# Altium footprint library PcbLib_Kur.PcbLib: 19 footprints (part 1 of 2)
Each footprint in its own frame and in the unit in brackets; x right, y up, seen from the top. Pads: shape width x height; smd on the part's side, far side on the other; paste and mask are expansions set on the pad; w line width, h text height; cw(c..) or ccw(c..) is an arc to the next point about the centre after c.
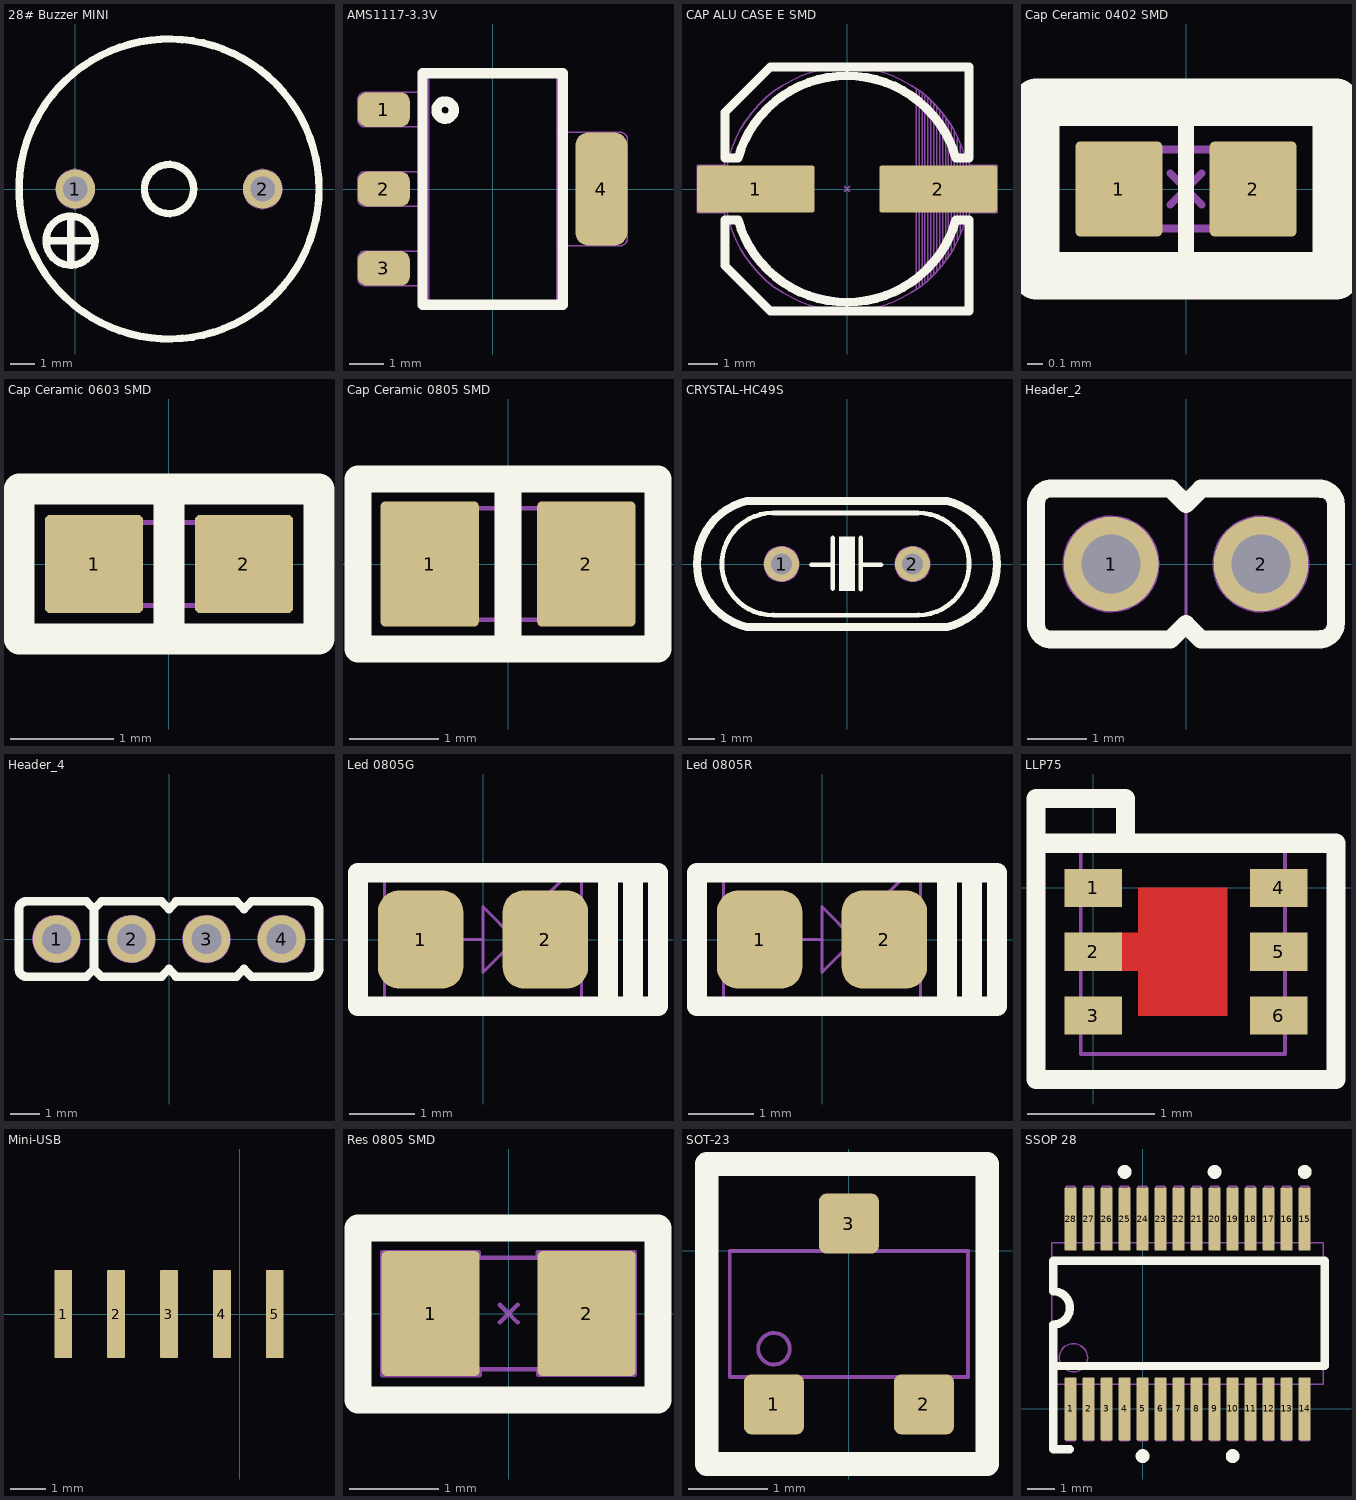
[diagram p0: the footprints below, top view; thin cyan lines are the x and y axes]

## 28# Buzzer MINI [mm] "PB-12N23P-05Q"
height 9.7
pads (2):
  round 1.6 hole 1 mask+0.1: 1(0,0) 2(7.62,0)
Top Overlay:
  circle w0.3: c-0.19,-2.1 r1
  circle w0.3: c3.81,0 r6.1
  circle w0.3: c3.81,0 r1
  lines w0.3: -1.19,-2.1 0.81,-2.1 ; -0.19,-3.1 -0.19,-1.1
Mechanical 2:
  circle w0.05: c0,0 r0.8
  circle w0.05: c3.81,0 r1
  circle w0.05: c-0.19,-2.1 r1
  circle w0.05: c7.62,0 r0.8
  circle w0.05: c3.81,0 r6.1
  lines w0.05: -1.19,-2.1 0.81,-2.1 ; -0.19,-3.1 -0.19,-1.1
  text "1" at -0.2,-0.5 h1.2
  text "2" at 7.32,-0.6 h1.2
3D body "User Library-Buzzer14mm.step": height 7.35, standoff -3.1, extent -3,-7 11,7

## AMS1117-3.3V [mm] "SOT223, 4-Leads, Body 6.7x7.3mm (max), Pitch 2.30mm, IPC Medium Density"
height 1.8
pads (4):
  rrect50% 1.5x1 smd: 1(-3.15,2.3) 2(-3.15,0) 3(-3.15,-2.3)
  rrect50% 1.5x3.28 smd: 4(3.15,0)
Top Overlay:
  circle w0.3: c-1.375,2.286 r0.25
  lines w0.3: -2.032,-3.355 2.032,-3.355 2.032,3.355 -2.032,3.355 -2.032,-3.355
Mechanical 2:
  lines w0.05: -1.89,1.8 -3.7,1.8 cw(c-3.7,2) -3.9,2 -3.9,2.6 cw(c-3.7,2.6) -3.7,2.8 -1.89,2.8 ; -1.855,-2.8 -3.7,-2.8 cw(c-3.7,-2.6) -3.9,-2.6 -3.9,-2 cw(c-3.7,-2) -3.7,-1.8 -1.855,-1.8 ; -1.855,-0.5 -3.7,-0.5 cw(c-3.7,-0.3) -3.9,-0.3 -3.9,0.3 cw(c-3.7,0.3) -3.7,0.5 -1.855,0.5 ; 1.855,-1.64 3.7,-1.64 ccw(c3.7,-1.44) 3.9,-1.44 3.9,1.44 ccw(c3.7,1.44) 3.7,1.64 1.855,1.64 ; -1.855,-3.355 -1.855,3.355 1.855,3.355 1.855,-3.355 -1.855,-3.355
  text "1" at -1.575,2.52 h1.2
  text "2" at -1.575,0.315 h1.2
  text "3" at -1.575,-1.89 h1.2
3D body "ALSRobot-SOT-223.step": height 1.64, standoff -0.01, extent -3.5,-3.25 3.5,3.25

## CAP ALU CASE E SMD [mm]
pads (2):
  rrect10% 4x1.6 smd mask+0.1: 1(-3.1,0) 2(3.1,0)
Top Overlay:
  lines w0.3: -3.705,1.05 -4.15,1.05 -4.15,2.6 -2.6,4.15 4.15,4.15 4.15,1.05 3.706,1.05 ; -3.703,1.052 cw(c0,0) 3.704,1.051 ; -4.15,-2.6 -4.15,-1.05 -3.705,-1.05 -3.704,-1.051 ccw(c0,0) 3.703,-1.052 3.706,-1.05 4.15,-1.05 4.15,-4.15 -2.6,-4.15 -4.15,-2.6
Mechanical 2:
  circle w0.05: c0,0 r4.15
  lines w0.05: -4.15,-0.8 -5.1,-0.8 -5.1,0.8 -4.15,0.8 ; -0.1,-0.1 0.1,0.1 ; -0.1,0.1 0.1,-0.1 ; 2.35,-3.4 2.35,3.4 ; 2.45,-3.35 2.45,3.35 ; 2.55,-3.25 2.55,3.25 ; 2.65,-3.15 2.65,3.15 ; 2.75,-3.1 2.75,3.1 ; 2.85,-3 2.85,3 ; 2.95,-2.9 2.95,2.9 ; 3.05,-2.8 3.05,2.8 ; 3.15,-2.7 3.15,2.7 ; 3.25,-2.55 3.25,2.55 ; 3.35,-2.45 3.35,2.45 ; 3.45,-2.3 3.45,2.3 ; 3.55,-2.1 3.55,2.1 ; 3.65,-1.95 3.65,1.95 ; 3.75,-1.75 3.75,1.75 ; 3.85,-1.5 3.85,1.5 ; 3.95,-1.2 3.95,1.2 ; 4.05,-0.85 4.05,0.85 ; 4.15,-0.8 5.1,-0.8 5.1,0.8 4.15,0.8 ; -4.15,-2.6 -4.15,2.6 -2.6,4.15 4.15,4.15 4.15,-4.15 -2.6,-4.15 -4.15,-2.6
3D body "User Library-ALU-E.STEP": height 6.2, standoff 0, extent -4.5,-4.15 4.5,4.15

## Cap Ceramic 0402 SMD [mm] "Reflow Soldering"
pads (2):
  rrect10% 0.55x0.6 smd mask+0.1: 1(-0.425,0) 2(0.425,0)
Top Overlay:
  lines w0.1: 0,-0.55 0,0.55
  lines w0.3: -0.95,-0.55 -0.95,0.55 0.95,0.55 0.95,-0.55 -0.95,-0.55
Mechanical 2:
  lines w0.05: -0.1,-0.1 0.1,0.1 ; -0.1,0.1 0.1,-0.1 ; -0.5,-0.25 -0.5,0.25 0.5,0.25 0.5,-0.25 -0.5,-0.25
3D body "User Library-SMD CAPACITOR0402.STEP": height 0.5, standoff 0, extent -0.5,-0.25 0.5,0.25

## Cap Ceramic 0603 SMD [mm] "Reflow Soldering"
pads (2):
  rrect10% 0.95x0.95 smd mask+0.1: 1(-0.725,0) 2(0.725,0)
Top Overlay:
  lines w0.3: -1.45,0.725 -1.45,-0.725 1.435,-0.725 ; -1.435,0.725 1.435,0.725 ; 0,-0.725 0,0.725 ; 1.45,-0.725 1.45,0.725
Mechanical 2:
  lines w0.05: -0.1,-0.1 0.1,0.1 ; -0.1,0.1 0.1,-0.1 ; -0.8,-0.4 0.8,-0.4 0.8,0.4 -0.8,0.4 -0.8,-0.4
3D body "User Library-SMD CAPACITOR0603.STEP": height 0.85, standoff 0.05, extent -0.8,-0.4 0.8,0.4

## Cap Ceramic 0805 SMD [mm] "Reflow Soldering"
pads (2):
  rrect10% 1.1x1.4 smd mask+0.1: 1(-0.875,0) 2(0.875,0)
Top Overlay:
  lines w0.3: 0,-0.95 0,0.95 ; -1.675,-0.95 -1.675,0.95 1.675,0.95 1.675,-0.95 -1.675,-0.95
Mechanical 2:
  lines w0.05: -0.1,-0.1 0.1,0.1 ; -0.1,0.1 0.1,-0.1 ; -1,-0.625 1,-0.625 1,0.625 -1,0.625 -1,-0.625
3D body "User Library-SMD CAPACITOR0805.STEP": height 0.65, standoff 0.05, extent -1,-0.625 1,0.625

## CRYSTAL-HC49S [mm]
pads (2):
  round 1.3 hole 0.8 mask+0.1: 1(-2.44,0) 2(2.44,0)
Top Overlay:
  region: 0.292,1.016 0.292,-0.991 -0.292,-0.991 -0.292,1.016
  lines w0.178: -2.769,1.905 ccw(c-2.756,0) -2.75,-1.905 ; -2.717,-1.905 2.617,-1.905 ; -2.692,1.905 2.642,1.905 ; -1.321,-0.025 -0.533,-0.025 ; -0.533,-0.914 -0.533,0.965 ; 0.508,-0.94 0.508,0.965 ; 0.508,-0.025 1.27,-0.025 ; 2.642,1.905 cw(c2.647,0) 2.66,-1.905
  lines w0.3: -3.733,-2.35 3.733,-2.35 ; -3.733,-2.348 cw(c-3.175,0) -3.733,2.348 ; -3.733,2.35 3.733,2.35 ; 3.733,-2.348 ccw(c3.175,0) 3.733,2.348
Mechanical 2:
  circle w0.05: c-2.44,0 r0.65
  circle w0.05: c2.44,0 r0.65
  lines w0.05: -3.733,-2.35 3.733,-2.35 ; -3.733,-2.348 cw(c-3.175,0) -3.733,2.348 ; -3.733,2.35 3.733,2.35 ; 3.733,-2.348 ccw(c3.175,0) 3.733,2.348
3D body "User Library-HC49S-1.STEP": height 3.6, standoff -3, extent -5.49,-2.246 5.49,2.246

## Header_2 [mm] "Connector DIP, 2Pin_2.54mm"
height 5
pads (2):
  round 1.6 hole 1 mask+0.1: 1(-1.27,0) 2(1.27,0)
Top Overlay:
  lines w0.3: -0.264,-1.28 -2.3,-1.28 cw(c-2.28,-1.02) -2.54,-1 -2.54,1 cw(c-2.28,1.02) -2.3,1.28 -0.254,1.28 ; -0.254,-1.27 0,-1.016 0,-1.026 0.254,-1.28 2.286,-1.28 2.286,-1.27 ; -0.254,1.27 0,1.016 0.254,1.27 ; 0.254,1.28 2.286,1.28 2.286,1.27 ; 2.26,-1.28 ccw(c2.26,-1) 2.54,-1 2.54,1 ccw(c2.26,1) 2.26,1.28
Mechanical 2:
  circle w0.05: c-1.27,0 r0.8
  circle w0.05: c1.27,0 r0.8
  lines w0.05: -0.264,-1.28 -2.3,-1.28 cw(c-2.28,-1.02) -2.54,-1 -2.54,1 cw(c-2.28,1.02) -2.3,1.28 -0.254,1.28 ; -0.254,-1.27 0,-1.016 0,-1.026 ; -0.254,1.27 0,1.016 ; 0.254,1.27 0,1.016 ; 0.254,1.28 2.286,1.28 2.286,1.27 ; 2.26,-1.28 ccw(c2.26,-1) 2.54,-1 2.54,1 ccw(c2.26,1) 2.26,1.28 ; 2.286,-1.27 2.286,-1.28 0.254,-1.28 0,-1.026 ; 0,-1.026 0,1.016
  text "1" at -1.524,-0.254 h1.2
  text "2" at 1.016,-0.254 h1.2
3D body "Header 1x2.STEP": height 10.1, standoff -1.5, extent -2.54,-1.27 2.54,1.27

## Header_4 [mm] "Connector DIP, 4Pin_2.54mm"
height 5
pads (4):
  round 1.6 hole 1 mask+0.1: 1(-3.81,0) 2(-1.27,0) 3(1.27,0) 4(3.81,0)
Top Overlay:
  lines w0.3: -2.794,-1.28 -2.794,-1.27 ; -2.794,1.27 -2.54,1.016 ; -2.794,1.28 -4.84,1.28 ccw(c-4.82,1.02) -5.08,1 -5.08,-1 ccw(c-4.82,-1.02) -4.84,-1.28 -2.804,-1.28 -2.794,-1.27 ; -2.286,1.27 -2.54,1.016 ; -2.286,1.28 -0.254,1.28 -0.254,1.27 0,1.016 0.254,1.27 ; 0.24,-1.28 2.276,-1.28 2.286,-1.27 ; 0.24,1.28 2.286,1.28 ; 0.254,-1.27 0,-1.016 -0.254,-1.27 -0.254,-1.28 -2.286,-1.28 -2.54,-1.026 ; 2.286,-1.28 2.286,-1.27 ; 2.286,1.27 2.54,1.016 2.794,1.27 ; 2.794,1.28 4.826,1.28 4.826,1.27 ; 4.8,-1.28 ccw(c4.8,-1) 5.08,-1 5.08,1 ccw(c4.8,1) 4.8,1.28 ; 4.826,-1.27 4.826,-1.28 2.794,-1.28 2.54,-1.026 2.54,-1.016 2.286,-1.27 ; -2.794,-1.27 -2.54,-1.016 -2.54,-1.026 ; -2.54,-1.026 -2.54,1.016
Mechanical 2:
  circle w0.05: c-1.27,0 r0.8
  circle w0.05: c3.81,0 r0.8
  circle w0.05: c1.27,0 r0.8
  circle w0.05: c-3.81,0 r0.8
  circle w0.05: c-3.81,0 r0.8
  lines w0.05: -2.794,-1.28 -2.794,-1.27 ; -2.794,1.27 -2.54,1.016 ; -2.794,1.28 -4.84,1.28 ccw(c-4.82,1.02) -5.08,1 -5.08,-1 ccw(c-4.82,-1.02) -4.84,-1.28 -2.804,-1.28 -2.794,-1.27 ; -2.286,1.27 -2.54,1.016 ; -2.286,1.28 -0.254,1.28 -0.254,1.27 0,1.016 0.254,1.27 ; 0.24,-1.28 2.276,-1.28 2.286,-1.27 ; 0.24,1.28 2.286,1.28 ; 0.254,-1.27 0,-1.016 -0.254,-1.27 -0.254,-1.28 -2.286,-1.28 -2.54,-1.026 -2.54,-1.016 ; 2.286,-1.28 2.286,-1.27 ; 2.286,1.27 2.54,1.016 2.794,1.27 ; 2.54,-1.026 2.794,-1.28 4.826,-1.28 4.826,-1.27 ; 2.54,-1.016 2.286,-1.27 ; 2.794,1.28 4.826,1.28 4.826,1.27 ; 4.8,-1.28 ccw(c4.8,-1) 5.08,-1 5.08,1 ccw(c4.8,1) 4.8,1.28 ; -2.794,-1.27 -2.54,-1.016 ; -2.54,-1.016 -2.54,1.016
  text "4" at 3.556,-0.254 h1.2
  text "1" at -4.064,-0.254 h1.2
3D body "Header 1x4.STEP": height 10.1, standoff -1.5, extent -5.08,-1.27 5.08,1.27

## Led 0805G [mm] "Chip LED; Green; Body 2.0 x 1.3 mm (LxW typ)"
height 1.1
pads (2):
  rrect50% 1.3x1.5 smd: 1(-0.95,0) 2(0.95,0)
Top Overlay:
  lines w0.3: 1.905,-1.016 1.905,1.016 ; 2.286,-1.016 2.286,1.016 ; -1.905,-1.016 2.667,-1.016 2.667,1.016 -1.905,1.016 -1.905,-1.016
Mechanical 2:
  lines w0.05: -1.5,-1 -1.5,1.032 ; -0.5,0 0,0 ; 0.5,-0.5 0.5,0.5 ; 0.6,0.5 0.8,0.7 0.8,0.5 1.2,0.9 ; 0.75,0.2 0.95,0.4 0.95,0.2 1.35,0.6 ; 1,0 0.5,0 ; 1.5,-1 1.5,1.032 ; 0.5,0 0,0.5 0,-0.5 0.5,0 ; -1.905,-1 1.905,-1 1.905,1.032 -1.905,1.032 -1.905,-1
3D body "User Library-User Library-led_0805 GRE.step": height 1.1, standoff 0, extent -1.035,-0.625 0.985,0.625

## Led 0805R [mm] "Chip LED; RED ; Body 2.0 x 1.3 mm (LxW typ)"
height 1.1
pads (2):
  rrect50% 1.3x1.5 smd: 1(-0.95,0) 2(0.95,0)
Top Overlay:
  lines w0.3: 1.905,-1.016 1.905,1.016 ; 2.286,-1.016 2.286,1.016 ; -1.905,-1.016 -1.905,1.016 2.667,1.016 2.667,-1.016 -1.905,-1.016
Mechanical 2:
  lines w0.05: -1.5,-1 -1.5,1.032 ; -0.5,0 0,0 ; 0.5,-0.5 0.5,0.5 ; 0.6,0.5 0.8,0.7 0.8,0.5 1.2,0.9 ; 0.75,0.2 0.95,0.4 0.95,0.2 1.35,0.6 ; 1,0 0.5,0 ; 1.5,-1 1.5,1.032 ; 0.5,0 0,-0.5 0,0.5 0.5,0 ; -1.905,-1 1.905,-1 1.905,1.032 -1.905,1.032 -1.905,-1
3D body "User Library-User Library-led_0805 R.step": height 1.1, standoff 0, extent -1.01,-0.625 1.01,0.625

## LLP75 [mm] "LLP75"
pads (6):
  rect 0.45x0.3 smd mask+0.05: 1(0,0) 2(0,-0.5) 3(0,-1) 4(1.45,0) 5(1.45,-0.5) 6(1.45,-1)
Top Layer:
  region: 0.2,-0.35 0.2,-0.65 0.35,-0.65 0.35,-1 1.05,-1 1.05,0 0.35,0 0.35,-0.35
Top Overlay:
  lines w0.15: 0.25,0.35 0.25,0.7 -0.45,0.7 -0.45,0.35 ; -0.45,0.35 -0.45,-1.5 1.9,-1.5 1.9,0.35 -0.45,0.35
Mechanical 2:
  lines w0.03: -0.1,-1.3 1.5,-1.3 1.5,0.3 -0.1,0.3 -0.1,-1.3
  text "1" at -0.42,-0.22 h0.5
3D body "User Library-LLP75_1-6SQ.step": height 0.63, standoff 0.02, extent -0.11,-1.3 1.51,0.3

## Mini-USB [mm] "USB Mini-Bq"
height 3.95
pads (5):
  rrect10% 0.5x2.5 smd mask+0.1: 1(-5,0) 2(-3.5,0) 3(-2,0) 4(-0.5,0) 5(1,0)

## Res 0805 SMD [mm] "Reflow Soldering"
pads (2):
  rrect10% 1.1x1.4 smd mask+0.1: 1(-0.875,0) 2(0.875,0)
Top Overlay:
  lines w0.3: -1.69,-0.97 1.675,-0.97 1.675,0.96 -1.69,0.96 -1.69,-0.97
Mechanical 2:
  lines w0.05: -0.331,0.642 -0.334,0.642 -0.334,0.687 -1.416,0.687 -1.416,-0.69 -1.413,-0.69 -0.327,-0.69 ; -0.325,-0.69 -0.325,-0.632 ; 0.324,0.632 0.324,0.69 ; 0.327,0.69 1.413,0.69 ; 0.334,-0.642 0.334,-0.687 1.416,-0.687 1.416,0.69 ; -1,-0.625 -1,0.625 1,0.625 1,-0.625 -1,-0.625
Mechanical 15:
  lines w0.05: -0.1,-0.1 0.1,0.1 ; -0.1,0.1 0.1,-0.1 ; -1,-0.625 -1,0.625 1,0.625 1,-0.625 -1,-0.625
3D body "User Library-SMD RESISTOR-10805.STEP": height 0.62, standoff 0.02, extent -1,-0.625 1,0.625

## SOT-23 [mm]
height 1.25
pads (3):
  rrect25% 0.76x0.76 smd mask+0.1: 1(-0.95,-1.945) 2(0.95,-1.945) 3(0,0.345)
Top Overlay:
  lines w0.3: -1.8,-2.7 -1.8,1.1 1.75,1.1 1.75,-2.7 -1.8,-2.7
Mechanical 2:
  circle w0.05: c-0.95,-1.24 r0.2
  lines w0.05: -1.15,-1.6 -1.15,-2.15 -0.75,-2.15 -0.75,-1.6 ; -0.2,0 -0.2,0.55 0.2,0.55 0.2,0 ; 0.75,-1.6 0.75,-2.15 1.15,-2.15 1.15,-1.6 ; -1.51,-1.6 1.51,-1.6 1.51,0 -1.51,0 -1.51,-1.6
3D body "SW3DPS-SOT-23-DEFAULT.STEP": height 1.15, standoff 0.05, extent -1.5,-2.05 1.5,0.45

## SSOP 28 [mm] "TSSOP PW 28  PIN TO PIN 0.65"
height 1.2
pads (28):
  rrect10% 0.432x2.261 smd mask+0.05: 1(-2.6,0) 2(-1.95,0) 3(-1.3,0) 4(-0.65,0) 5(0,0) 6(0.65,0) 7(1.3,0) 8(1.95,0) 9(2.6,0) 10(3.25,0) 11(3.9,0) 12(4.55,0) 13(5.2,0) 14(5.85,0) 15(5.85,6.858) 16(5.2,6.858) 17(4.55,6.858) 18(3.9,6.858) 19(3.25,6.858) 20(2.6,6.858) 21(1.95,6.858) 22(1.3,6.858) 23(0.65,6.858) 24(0,6.858) 25(-0.65,6.858) 26(-1.3,6.858) 27(-1.95,6.858) 28(-2.6,6.858)
Top Overlay:
  circle w0.3: c0,-1.7 r0.1
  circle w0.3: c3.25,-1.7 r0.1
  circle w0.3: c5.85,8.558 r0.1
  circle w0.3: c2.6,8.558 r0.1
  circle w0.3: c-0.65,8.558 r0.1
  lines w0.3: -3.225,1.5 -3.225,-1.45 -2.625,-1.45 ; -3.225,1.55 6.575,1.55 6.575,5.35 -3.225,5.35 -3.225,4.25 cw(c-3.225,3.65) -3.225,3.05 -3.225,1.55
Mechanical 2:
  circle w0.05: c-2.5,1.85 r0.51
  lines w0.05: -3.25,3.05 ccw(c-3.25,3.65) -3.25,4.25 ; -2.75,6 -2.45,6 ; -2.75,6 -2.75,8.05 -2.45,8.05 -2.45,6 ; -2.75,6 -2.45,6 ; -3.275,0.9 6.525,0.9 6.525,6 -3.275,6 -3.275,0.9 ; -2.75,-1.15 -2.75,0.9 -2.45,0.9 -2.45,-1.15 -2.75,-1.15 ; -2.1,-1.15 -1.8,-1.15 -1.8,0.9 -2.1,0.9 -2.1,-1.15 ; -2.1,6 -1.8,6 -1.8,8.05 -2.1,8.05 -2.1,6 ; -1.45,-1.15 -1.45,0.9 -1.15,0.9 -1.15,-1.15 -1.45,-1.15 ; -1.45,6 -1.15,6 -1.15,8.05 -1.45,8.05 -1.45,6 ; -0.8,-1.15 -0.8,0.9 -0.5,0.9 -0.5,-1.15 -0.8,-1.15 ; -0.8,6 -0.5,6 -0.5,8.05 -0.8,8.05 -0.8,6 ; -0.15,-1.15 -0.15,0.9 0.15,0.9 0.15,-1.15 -0.15,-1.15 ; -0.15,6 0.15,6 0.15,8.05 -0.15,8.05 -0.15,6 ; 0.5,-1.15 0.5,0.9 0.8,0.9 0.8,-1.15 0.5,-1.15 ; 0.5,6 0.8,6 0.8,8.05 0.5,8.05 0.5,6 ; 1.15,-1.15 1.15,0.9 1.45,0.9 1.45,-1.15 1.15,-1.15 ; 1.15,6 1.45,6 1.45,8.05 1.15,8.05 1.15,6 ; 1.8,-1.15 1.8,0.9 2.1,0.9 2.1,-1.15 1.8,-1.15 ; 1.8,6 2.1,6 2.1,8.05 1.8,8.05 1.8,6 ; 2.45,-1.15 2.45,0.9 2.75,0.9 2.75,-1.15 2.45,-1.15 ; 2.45,6 2.75,6 2.75,8.05 2.45,8.05 2.45,6 ; 3.1,-1.15 3.1,0.9 3.4,0.9 3.4,-1.15 3.1,-1.15 ; 3.1,6 3.4,6 3.4,8.05 3.1,8.05 3.1,6 ; 3.75,-1.15 3.75,0.9 4.05,0.9 4.05,-1.15 3.75,-1.15 ; 3.75,6 4.05,6 4.05,8.05 3.75,8.05 3.75,6 ; 4.4,-1.15 4.4,0.9 4.7,0.9 4.7,-1.15 4.4,-1.15 ; 4.4,6 4.7,6 4.7,8.05 4.4,8.05 4.4,6 ; 5.05,-1.15 5.05,0.9 5.35,0.9 5.35,-1.15 5.05,-1.15 ; 5.05,6 5.35,6 5.35,8.05 5.05,8.05 5.05,6 ; 5.7,-1.15 5.7,0.9 6,0.9 6,-1.15 5.7,-1.15 ; 5.7,6 6,6 6,8.05 5.7,8.05 5.7,6
  text "28" at -2.8,4.7 h0.8
  text "15" at 4.95,4.7 h0.8
  text "14" at 4.95,1.3 h0.8
3D body "User Library-SSOP-28-2.step": height 2, standoff 0, extent -3.47,-0.481 6.73,7.331